# Altium footprint library WISP_AD10.PcbLib: 73 footprints (part 3 of 5)
Each footprint in its own frame and in the unit in brackets; x right, y up, seen from the top. Pads: shape width x height; smd on the part's side, far side on the other; paste and mask are expansions set on the pad; w line width, h text height; cw(c..) or ccw(c..) is an arc to the next point about the centre after c.
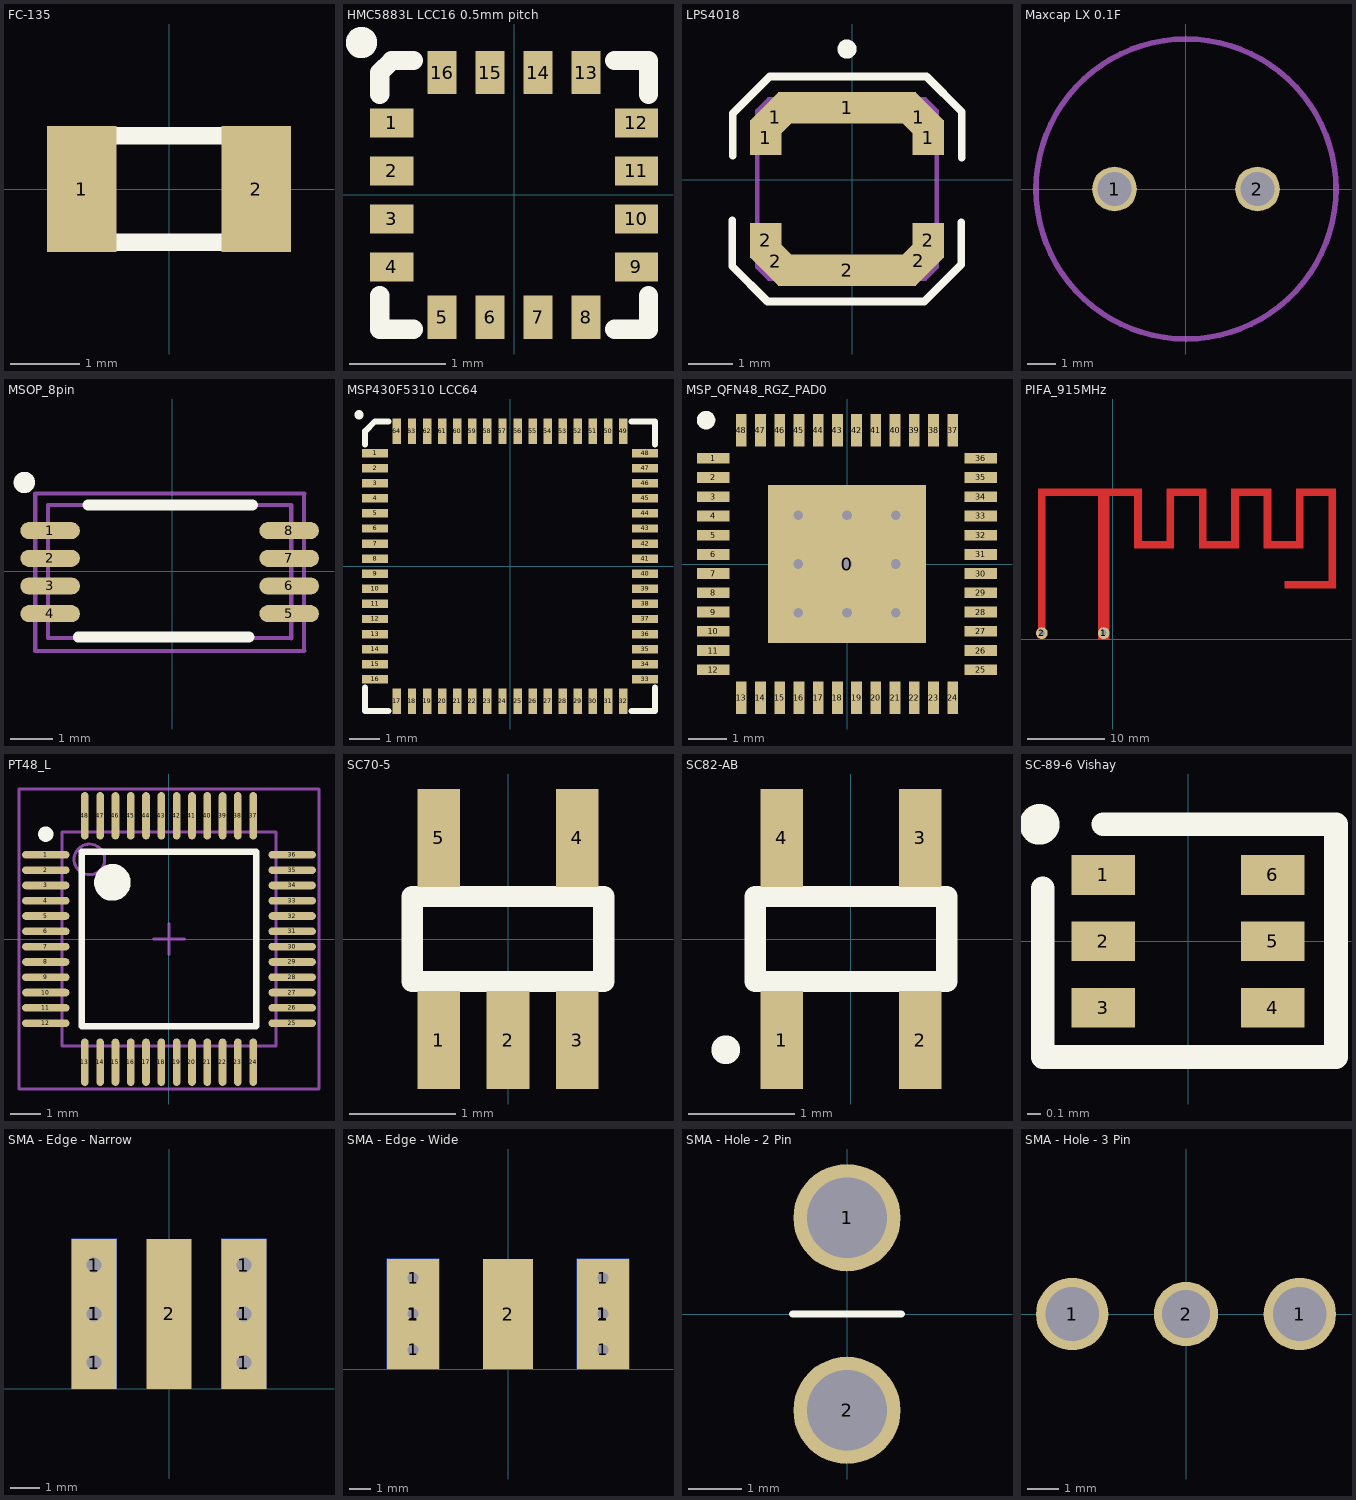
[diagram p2: the footprints below, top view; thin cyan lines are the x and y axes]

## FC-135 [mm] "FC-135   crystal - epson eletronics"
height 0.8
pads (2):
  rect 1x1.8 smd: 1(-1.25,0) 2(1.25,0)
Top Overlay:
  lines w0.254: -0.762,-0.762 0.762,-0.762 ; -0.762,0.762 0.762,0.762

## HMC5883L LCC16 0.5mm pitch [mm]
pads (16):
  rect 0.45x0.3 smd: 1(-1.275,0.75) 2(-1.275,0.25) 3(-1.275,-0.25) 4(-1.275,-0.75) 9(1.275,-0.75) 10(1.275,-0.25) 11(1.275,0.25) 12(1.275,0.75)
  rect 0.3x0.45 smd: 5(-0.75,-1.275) 6(-0.25,-1.275) 7(0.25,-1.275) 8(0.75,-1.275) 13(0.75,1.275) 14(0.25,1.275) 15(-0.25,1.275) 16(-0.75,1.275)
Top Overlay:
  circle w0.254: c-1.59,1.588 r0.036
  lines w0.2: -1.4,-1.05 -1.4,-1.4 -1.05,-1.4 ; -1.4,1.05 -1.4,1.275 -1.275,1.4 -1.05,1.4 ; 1.05,-1.4 1.4,-1.4 1.4,-1.05 ; 1.05,1.4 1.4,1.4 1.4,1.05

## LPS4018 [mil] "Inductor"
height 31.5
pads (10):
  rect 28x31.5 smd: 1(-77.03,37.61) 1(67.97,37.61) 2(-77.03,-54.39) 2(67.97,-54.39)
  rect 35.5x28 smd rot 45: 1(-68.53,55.61) 2(59.47,-72.39)
  rect 123x28 smd: 1(-4.53,64.11) 2(-4.53,-80.89)
  rect 35.5x28 smd rot 135: 1(59.47,55.61) 2(-68.03,-72.89)
Top Overlay:
  circle w10: c-4.53,116.61 r3.54
  lines w7: -107.03,-36.39 -107.03,-77.39 -75.53,-108.89 64.47,-108.89 97.47,-75.89 97.47,-38.39 ; -106.53,21.61 -106.53,59.11 -73.53,92.11 66.47,92.11 97.97,60.61 97.97,19.61
Mechanical 5:
  lines w4: -84.53,-78.39 -84.53,61.61 -74.53,71.61 65.47,71.61 75.47,61.61 75.47,-78.39 65.47,-88.39 -74.53,-88.39 -84.53,-78.39
3D body "LPS4018.STEP": height 71.47, standoff 0.6, extent -85.35,-89.21 76.3,72.44

## Maxcap LX 0.1F [mm] "Maxcap LX Series, 0.1F, Diameter  11mm, Leads 5.1mm"
height 6.5
pads (2):
  round 1.6 hole 1.2: 1(-2.55,0) 2(2.55,0)
Mechanical 1:
  circle w0.2: c0,0 r5.35

## MSOP_8pin [mm]
pads (8):
  oval 1.4x0.4 smd: 1(-2.872,0.95) 2(-2.872,0.3) 3(-2.872,-0.35) 4(-2.87,-1.001) 5(2.745,-1) 6(2.745,-0.35) 7(2.745,0.3) 8(2.745,0.95)
Top Overlay:
  circle w0.25: c-3.478,2.083 r0.125
  lines w0.254: -2.21,-1.549 1.803,-1.549 ; -1.981,1.549 1.88,1.549
Mechanical 13:
  lines w0.1: 2.795,1.525 2.795,-1.575 -2.922,-1.575 -2.922,1.549 2.794,1.549
Mechanical 15:
  lines w0.1: 3.095,-1.875 3.095,1.825 ; 3.099,-1.875 -3.222,-1.875 -3.222,1.825 3.099,1.825

## MSP430F5310 LCC64 [mm]
pads (64):
  rect 0.85x0.28 smd: 1(-4.475,3.75) 2(-4.475,3.25) 3(-4.475,2.75) 4(-4.475,2.25) 5(-4.475,1.75) 6(-4.475,1.25) 7(-4.475,0.75) 8(-4.475,0.25) 9(-4.475,-0.25) 10(-4.475,-0.75) 11(-4.475,-1.25) 12(-4.475,-1.75) 13(-4.475,-2.25) 14(-4.475,-2.75) 15(-4.475,-3.25) 16(-4.475,-3.75) 33(4.475,-3.75) 34(4.475,-3.25) 35(4.475,-2.75) 36(4.475,-2.25) 37(4.475,-1.75) 38(4.475,-1.25) 39(4.475,-0.75) 40(4.475,-0.25) 41(4.475,0.25) 42(4.475,0.75) 43(4.475,1.25) 44(4.475,1.75) 45(4.475,2.25) 46(4.475,2.75) 47(4.475,3.25) 48(4.475,3.75)
  rect 0.28x0.85 smd: 17(-3.75,-4.475) 18(-3.25,-4.475) 19(-2.75,-4.475) 20(-2.25,-4.475) 21(-1.75,-4.475) 22(-1.25,-4.475) 23(-0.75,-4.475) 24(-0.25,-4.475) 25(0.25,-4.475) 26(0.75,-4.475) 27(1.25,-4.475) 28(1.75,-4.475) 29(2.25,-4.475) 30(2.75,-4.475) 31(3.25,-4.475) 32(3.75,-4.475) 49(3.75,4.475) 50(3.25,4.475) 51(2.75,4.475) 52(2.25,4.475) 53(1.75,4.475) 54(1.25,4.475) 55(0.75,4.475) 56(0.25,4.475) 57(-0.25,4.475) 58(-0.75,4.475) 59(-1.25,4.475) 60(-1.75,4.475) 61(-2.25,4.475) 62(-2.75,4.475) 63(-3.25,4.475) 64(-3.75,4.475)
Top Overlay:
  circle w0.254: c-5.008,5.02 r0.025
  lines w0.2: -4.8,-4.03 -4.8,-4.8 -4.03,-4.8 ; -4.8,4.03 -4.8,4.475 -4.475,4.8 -4.03,4.8 ; 4.03,-4.8 4.8,-4.8 4.8,-4.03 ; 4.03,4.8 4.8,4.8 4.8,4.03
3D body: height 1, standoff 0, extent -4.375,-4.35 4.425,4.35

## MSP_QFN48_RGZ_PAD0 [mm]
pads (49):
  rect 4.1x4.1 smd: 0(0,0)
  rect 0.85x0.28 smd: 1(-3.475,2.75) 2(-3.475,2.25) 3(-3.475,1.75) 4(-3.475,1.25) 5(-3.475,0.75) 6(-3.475,0.25) 7(-3.475,-0.25) 8(-3.475,-0.75) 9(-3.475,-1.25) 10(-3.475,-1.75) 11(-3.475,-2.25) 12(-3.475,-2.75) 25(3.475,-2.75) 26(3.475,-2.25) 27(3.475,-1.75) 28(3.475,-1.25) 29(3.475,-0.75) 30(3.475,-0.25) 31(3.475,0.25) 32(3.475,0.75) 33(3.475,1.25) 34(3.475,1.75) 35(3.475,2.25) 36(3.475,2.75)
  rect 0.28x0.85 smd: 13(-2.75,-3.475) 14(-2.25,-3.475) 15(-1.75,-3.475) 16(-1.25,-3.475) 17(-0.75,-3.475) 18(-0.25,-3.475) 19(0.25,-3.475) 20(0.75,-3.475) 21(1.25,-3.475) 22(1.75,-3.475) 23(2.25,-3.475) 24(2.75,-3.475) 37(2.75,3.475) 38(2.25,3.475) 39(1.75,3.475) 40(1.25,3.475) 41(0.75,3.475) 42(0.25,3.475) 43(-0.25,3.475) 44(-0.75,3.475) 45(-1.25,3.475) 46(-1.75,3.475) 47(-2.25,3.475) 48(-2.75,3.475)
via 0,-1.27 diameter 0.508 hole 0.254
via -1.27,-1.27 diameter 0.508 hole 0.254
via 1.27,0 diameter 0.508 hole 0.254
via 0,0 diameter 0.508 hole 0.254
via -1.27,0 diameter 0.508 hole 0.254
via 1.27,1.27 diameter 0.508 hole 0.254
via 1.27,-1.27 diameter 0.508 hole 0.254
via 0,1.27 diameter 0.508 hole 0.254
via -1.27,1.27 diameter 0.508 hole 0.254
Top Overlay:
  circle w0.254: c-3.665,3.741 r0.114
Mechanical 13:
  text ".Designator" at -2.4,1.5 h0.76
3D body: height 1, standoff 0, extent -3.302,-3.302 3.302,3.302

## PIFA_915MHz [mil]
pads (2):
  round 60 hole 30: 1(-47.24,32.68) 2(-363.39,32.68)
Top Layer:
  rectangle: -383.07,3.94 -343.7,771.65
  rectangle: -343.7,732.28 -17.72,771.65
  rectangle: -76.77,0 -17.72,732.28
  rectangle: 935.04,732.28 1139.76,771.65
  rectangle: 1100.39,259.84 1139.76,732.28
  rectangle: 875.98,259.84 1100.39,299.21
  rectangle: 935.04,503.94 974.41,771.65
  rectangle: 769.68,464.57 974.41,503.94
  rectangle: 769.68,503.94 809.06,771.65
  rectangle: 604.33,732.28 809.06,771.65
  rectangle: 604.33,503.94 643.7,771.65
  rectangle: 438.98,464.57 643.7,503.94
  rectangle: 438.98,503.94 478.35,771.65
  rectangle: 273.62,732.28 478.35,771.65
  rectangle: 273.62,503.94 312.99,771.65
  rectangle: 108.27,464.57 312.99,503.94
  region: 147.64,771.65 108.27,771.65 108.27,503.94 147.64,503.94
  rectangle: -17.72,732.28 147.64,771.65

## PT48_L [mm] "Thin QFP, 48-Leads, Body 7x7mm, Pitch 0.5mm, IPC High Density"
height 1.6
pads (48):
  oval 1.55x0.25 smd: 1(-4.025,2.75) 2(-4.025,2.25) 3(-4.025,1.75) 4(-4.025,1.25) 5(-4.025,0.75) 6(-4.025,0.25) 7(-4.025,-0.25) 8(-4.025,-0.75) 9(-4.025,-1.25) 10(-4.025,-1.75) 11(-4.025,-2.25) 12(-4.025,-2.75) 25(4.025,-2.75) 26(4.025,-2.25) 27(4.025,-1.75) 28(4.025,-1.25) 29(4.025,-0.75) 30(4.025,-0.25) 31(4.025,0.25) 32(4.025,0.75) 33(4.025,1.25) 34(4.025,1.75) 35(4.025,2.25) 36(4.025,2.75)
  oval 0.25x1.55 smd: 13(-2.75,-4.025) 14(-2.25,-4.025) 15(-1.75,-4.025) 16(-1.25,-4.025) 17(-0.75,-4.025) 18(-0.25,-4.025) 19(0.25,-4.025) 20(0.75,-4.025) 21(1.25,-4.025) 22(1.75,-4.025) 23(2.25,-4.025) 24(2.75,-4.025) 37(2.75,4.025) 38(2.25,4.025) 39(1.75,4.025) 40(1.25,4.025) 41(0.75,4.025) 42(0.25,4.025) 43(-0.25,4.025) 44(-0.75,4.025) 45(-1.25,4.025) 46(-1.75,4.025) 47(-2.25,4.025) 48(-2.75,4.025)
Top Overlay:
  circle w0.6: c-1.85,1.85 r0.3
  circle w0.25: c-4.025,3.425 r0.125
  lines w0.2: -2.85,-2.85 2.85,-2.85 2.85,2.85 -2.85,2.85 -2.85,-2.85
Mechanical 13:
  circle w0.1: c-2.6,2.6 r0.5
  lines w0.1: -3.5,-3.5 3.5,-3.5 3.5,3.5 -3.5,3.5 -3.5,-3.5
Mechanical 15:
  lines w0.1: -0.5,0 0.5,0 ; 0,-0.5 0,0.5 ; -4.9,-4.9 4.9,-4.9 4.9,4.9 -4.9,4.9 -4.9,-4.9
3D body: height 1.6, standoff 0, extent -3.5,-3.5 3.5,3.5

## SC70-5 [mm] "SC70-5"
pads (5):
  rect 0.4x0.92 smd: 1(-0.65,-0.95) 2(0,-0.95) 3(0.65,-0.95) 4(0.65,0.95) 5(-0.65,0.95)
Top Overlay:
  lines w0.2: -0.9,-0.4 -0.9,0.4 0.9,0.4 0.9,-0.4 -0.9,-0.4

## SC82-AB [mm]
pads (4):
  rect 0.4x0.92 smd: 1(-0.65,-0.95) 2(0.65,-0.95) 3(0.65,0.95) 4(-0.65,0.95)
Top Overlay:
  circle w0.254: c-1.176,-1.041 r0.008
  lines w0.2: -0.9,-0.4 0.9,-0.4 0.9,0.4 -0.9,0.4 -0.9,-0.4

## SC-89-6 Vishay [mm]
pads (6):
  rect 0.478x0.3 smd: 1(-0.638,0.5) 2(-0.638,0) 3(-0.638,-0.5) 4(0.638,-0.5) 5(0.638,0) 6(0.638,0.5)
Top Overlay:
  circle w0.254: c-1.121,0.881 r0.025
  lines w0.178: -1.095,0.398 -1.095,-0.872 1.115,-0.872 1.115,0.881 -0.638,0.881

## SMA - Edge - Narrow [mil] "SMA - Board Edge Connector, Narrow body = 0.25in"
height 5
pads (11):
  round 38 hole 20: 1(-100,35) 1(-100,100) 1(-100,165) 1(100,35) 1(100,100) 1(100,165)
  rect 60x200 smd: 1(-100,100) 1(100,100) 2(0,100)
  rect 60x200 smd far side: 1(-100,100) 1(100,100)
3D body "Samtec-SMA-J-P-H-ST-EM1.step": height 150.2, standoff -99.8, extent -125,-377.95 125,146.85

## SMA - Edge - Wide [mil] "SMA - Board Edge Connector, Wide Body = .375in, no gnd pad"
height 5
pads (11):
  round 38 hole 20: 1(-172.5,35) 1(-172.5,100) 1(-172.5,165) 1(172.5,35) 1(172.5,100) 1(172.5,165)
  rect 95x200 smd: 1(-172.5,100) 1(172.5,100)
  rect 95x200 smd far side: 1(-172.5,100) 1(172.5,100)
  rect 90x200 smd: 2(0,100)

## SMA - Hole - 2 Pin [mm] "SMA port for wisp"
pads (2):
  round 2 hole 1.5: 1(0,1.796) 2(0,-1.796)
Top Overlay:
  lines w0.127: -1.016,0 1.016,0

## SMA - Hole - 3 Pin [mil] "SMA Through Hole Connector 3 pins"
pads (3):
  round 90 hole 67: 1(-141.42,0) 1(141.42,0)
  round 80 hole 59.06: 2(0,0)